# Altium schematic symbol library LSF0102QDCURQ1.SchLib: 1 symbol
Pins are listed as number, name and electrical type; pins without a type are passive.

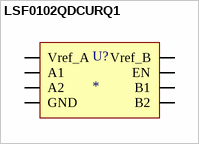
[diagram p0: symbol LSF0102QDCURQ1]

## LSF0102QDCURQ1
designator U?
pins: 1 GND, 2 Vref_A, 3 A1, 4 A2, 5 B2, 6 B1, 7 Vref_B, 8 EN